# Altium footprint library 438600010_RJ45.PcbLib: 1 footprints
Each footprint in its own frame and in the unit in brackets; x right, y up, seen from the top. Pads: shape width x height; smd on the part's side, far side on the other; paste and mask are expansions set on the pad; w line width, h text height; cw(c..) or ccw(c..) is an arc to the next point about the centre after c.
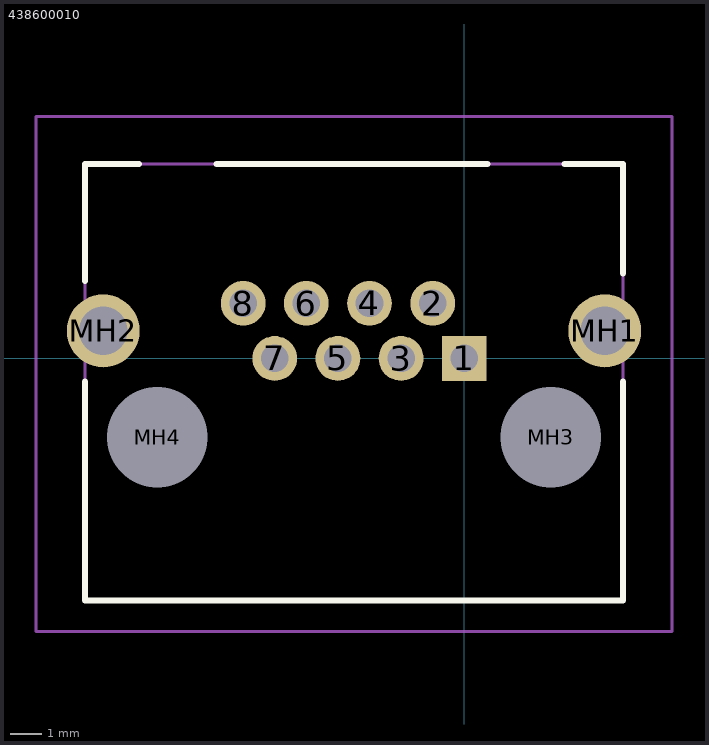
[diagram p0: the footprint, top view; thin cyan lines are the x and y axes]

## 438600010 [mm]
pads (12):
  rect 1.446x1.446 hole 0.89: 1(0,0)
  round 1.446 hole 0.89: 2(-1.02,1.78) 3(-2.04,0) 4(-3.06,1.78) 5(-4.08,0) 6(-5.1,1.78) 7(-6.12,0) 8(-7.14,1.78)
  round 2.355 hole 1.57: MH1(4.54,0.89) MH2(-11.66,0.89)
  round 1.625 hole 3.25 unplated: MH3(2.79,-2.54) MH4(-9.91,-2.54)
Top Overlay:
  lines w0.2: -12.25,-7.82 -12.25,-0.75 -12.25,-7.82 ; -12.25,-7.82 5.125,-7.82 ; -12.25,-7.82 5.125,-7.82 ; -12.245,6.28 -10.5,6.28 -12.245,6.28 ; -12.245,6.28 -12.25,6.28 -12.25,2.5 -12.245,2.5 -12.245,6.28 ; 5.125,-7.82 5.125,-0.75 5.125,-7.82 ; 5.125,6.28 5.125,2.75 5.125,6.28 ; 5.125,6.28 3.25,6.28 5.125,6.28 ; -8,6.28 0.75,6.28 -8,6.28
Mechanical 15:
  lines w0.1: -12.245,-7.82 -12.245,6.28 5.125,6.28 5.125,-7.82 -12.245,-7.82
Mechanical 20:
  lines w0.1: -13.837,-8.82 -13.837,7.815 6.717,7.815 6.717,-8.82 -13.837,-8.82
3D body "43860-0010.stp": height 14.23, standoff -3.59, extent -12.57,-8.238 5.49,7.929